# EAGLE library part TS555 (library DeepReset2)
STMicroelectronics TS555IDTTR $1.12 IC OSC SINGLE TIMER 2.7MHZ 8SOIC 555 Type, Timer/Oscillator (Single) IC 2.7MHz 8-SO https://www.digikey.com/product-detail/en/stmicroelectronics/TS555IDTTR/497-16404-1-ND/5959811
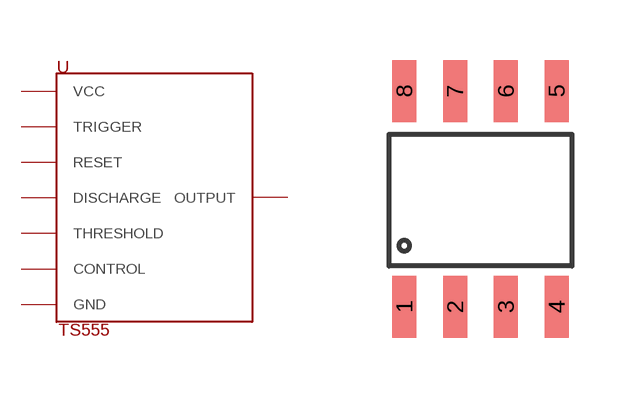
[diagram p1: symbol with the pads of 8-SOIC-MICROCHIP-3.9; footprint 8-SOIC-MICROCHIP-3.9]

Designator prefix -

## TS555  [8-SOIC-MICROCHIP-3.9]
1  GND  sup
2  TRIGGER  in
3  OUTPUT  out
4  RESET  in
5  CONTROL
6  THRESHOLD
7  DISCHARGE
8  VCC  pwr

## Footprint 8-SOIC-MICROCHIP-3.9 (pad centres in mm)
smd 0.6 x 1.55: 1 0,0; 2 1.27,0; 3 2.54,0; 4 3.81,0; 5 3.81,5.4; 6 2.54,5.4; 7 1.27,5.4; 8 0,5.4